# EAGLE library part TON_SS (library pkess_schuetze-relais)
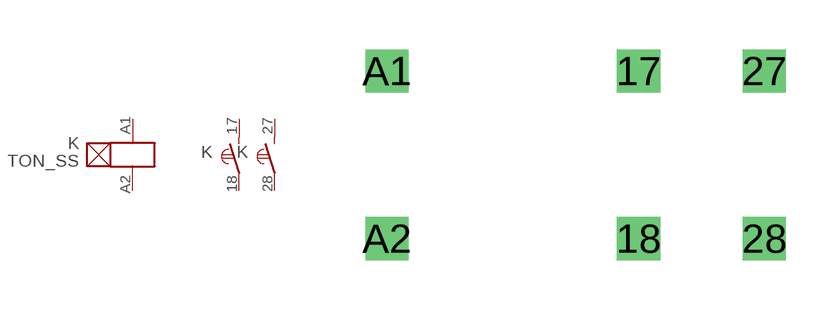
[diagram p2: symbol with the pads of GENERIC_TON_SS; footprint GENERIC_TON_SS]

Designator prefix K; gates SPULE=SPULE_TON G$1=KONTAKT_SCHLIESSER_TON G$2=KONTAKT_SCHLIESSER_TON

## TON_SSGENERIC (ZEIT: 5s)  [GENERIC_TON_SS]
17  G$1:7  pas
18  G$1:8  pas
27  G$2:7  pas
28  G$2:8  pas
A1  SPULE:A1  pas
A2  SPULE:A2  pas

## Footprint GENERIC_TON_SS (pad centres in mm)
drill 0.8 square: 17 7.62,2.54; 18 7.62,-2.54; 27 11.43,2.54; 28 11.43,-2.54; A1 0,2.54; A2 0,-2.54